# EAGLE library part TDA8543 (library Audio-Power-amlifier V.2.0)
2 W BTL audio amplifier
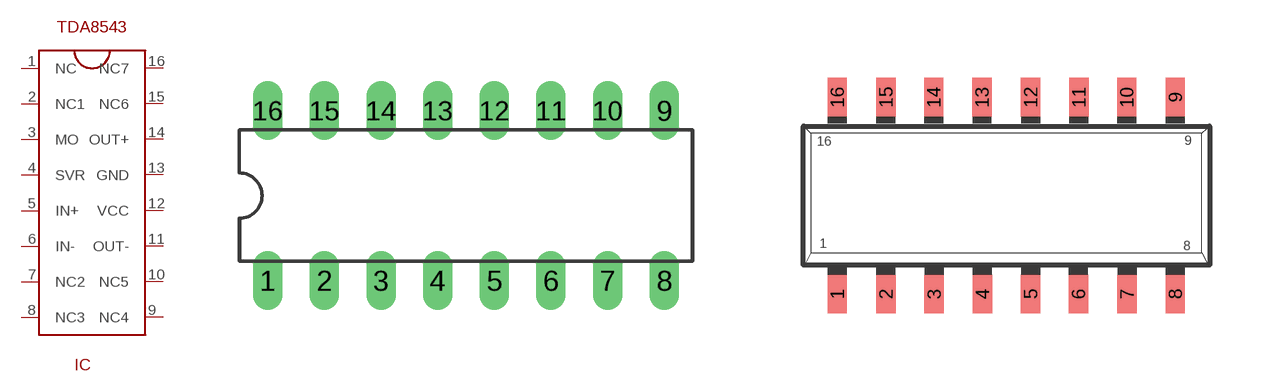
[diagram p33: symbol with the pads of SOT38-1; footprints SOT38-1, SOT109-1]

Designator prefix IC

## TDA8543  [SOT38-1]
1  NC  nc
2  NC1  nc
3  MO
4  SVR
5  IN+  in
6  IN-  in
7  NC2  nc
8  NC3  nc
9  NC4  nc
10  NC5  nc
11  OUT-  out
12  VCC  pwr
13  GND  pwr
14  OUT+  out
15  NC6  nc
16  NC7  nc

## TDA8543SOT109-1  [SOT109-1]
Pads as for SOT38-1

## Footprint SOT38-1 (pad centres in mm)
Dual In Line Package
drill 0.813 long: 1 -8.89,-3.81; 2 -6.35,-3.81; 3 -3.81,-3.81; 4 -1.27,-3.81; 5 1.27,-3.81; 6 3.81,-3.81; 7 6.35,-3.81; 8 8.89,-3.81; 9 8.89,3.81; 10 6.35,3.81; 11 3.81,3.81; 12 1.27,3.81; 13 -1.27,3.81; 14 -3.81,3.81; 15 -6.35,3.81; 16 -8.89,3.81

## Footprint SOT109-1 (pad centres in mm)
smd 0.508 x 1.016: 1 -4.45,-2.59; 2 -3.17,-2.59; 3 -1.9,-2.59; 4 -0.63,-2.59; 5 0.64,-2.59; 6 1.9,-2.59; 7 3.18,-2.59; 8 4.45,-2.59; 9 4.45,2.59; 10 3.17,2.59; 11 1.91,2.59; 12 0.64,2.59; 13 -0.64,2.59; 14 -1.91,2.59; 15 -3.17,2.59; 16 -4.45,2.59